# Altium schematic symbol library BT100_Project.SCHLIB: 27 symbols
Pins are listed as number, name and electrical type; pins without a type are passive.

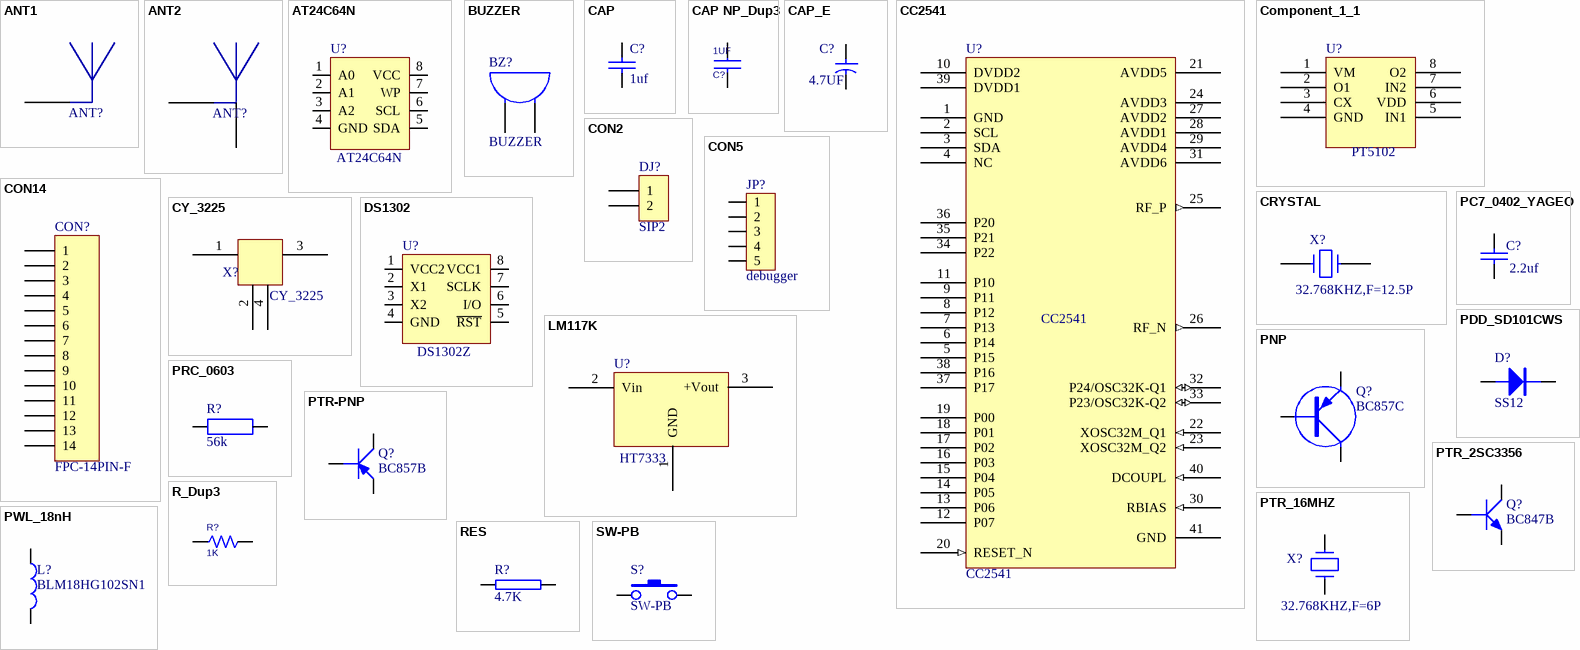
[diagram p0: symbols ANT1 to SW-PB]

## ANT1
designator ANT?, comment ANT  (value not drawn)
footprint ANT
pins: 2

## ANT2
designator ANT?, comment ANT  (value not drawn)
footprint ANT
pins: 1, 2

## AT24C64N
designator U?
footprint AT24C64
footprint PIC-00570-40-2A_93LC46B (SOIC-8)
pins: 1 A0, 2 A1, 3 A2, 4 GND, 5 SDA, 6 SCL, 7 WP, 8 VCC

## BUZZER
designator BZ?
footprint 2PAD-9
pins: 1 A, 2 B

## CAP
designator C?, comment 1uf
Capacitor
footprint 0603
pins: 1, 2

## CAP NP_Dup3
designator C?, comment 1UF
Right: 20; Bottom: 10
footprint C0603
footprint 0603
pins: 1, 2
2 alternate drawings of the same symbol

## CAP_E
designator C?, comment 4.7UF
1206
footprint 3216C
pins: 1, 2
2 alternate drawings of the same symbol

## CC2541
designator U?
footprint CC2530_QFN40
pins: 1 GND (power), 2 SCL (power), 3 SDA (power), 4 NC (power), 5 P15, 6 P14, 7 P13, 8 P12, 9 P11, 10 DVDD2 (power), 11 P10, 12 P07, 13 P06, 14 P05, 15 P04, 16 P03, 17 P02, 18 P01, 19 P00, 20 RESET_N (in), 21 AVDD5 (power), 22 XOSC32M_Q1 (in), 23 XOSC32M_Q2 (in), 24 AVDD3 (power), 25 RF_P (out), 26 RF_N (out), 27 AVDD2 (power), 28 AVDD1 (power), 29 AVDD4 (power), 30 RBIAS (in), 31 AVDD6 (power), 32 P24/OSC32K-Q1 (io), 33 P23/OSC32K-Q2 (io), 34 P22, 35 P21, 36 P20, 37 P17, 38 P16, 39 DVDD1 (power), 40 DCOUPL (in), 41 GND (power)

## Component_1_1
designator U?, comment PT5102
footprint PT5102
pins: 1 VM, 2 O1, 3 CX, 4 GND, 5 IN1, 6 VDD, 7 IN2, 8 O2

## CON2
designator DJ?, comment SIP2
Connector
footprint 2PAD-9
pins: 1, 2

## CON5
designator JP?, comment debugger
footprint ISCP-5PIN
pins: 1, 2, 3, 4, 5

## CON14
designator CON?, comment FPC-14PIN-F
Connector
footprint FFC6214
pins: 1, 2, 3, 4, 5, 6, 7, 8, 9, 10, 11, 12, 13, 14

## CRYSTAL
designator X?, comment 32.768KHZ,F=12.5P
Crystal
footprint FC-135
pins: 1, 2

## CY_3225
designator X?
footprint CY_3225
pins: 1 (power), 2 (power), 3 (power), 4 (power)

## DS1302
designator U?, comment DS1302Z
footprint PIC-00570-40-2A_93LC46B (SOIC-8)
pins: 1 VCC2, 2 X1, 3 X2, 4 GND, 5 ~{RST}, 6 I/O, 7 SCLK, 8 VCC1

## LM117K
designator U?, comment HT7333
footprint TO-3
footprint SOT89 (SOT-89; Body 4.6 x 4.25 mm, inc. leads (LxW max))
pins: 1 GND, 2 Vin, 3 +Vout

## PC7_0402_YAGEO
designator C?, comment 2.2uf
PC7-*****-KQA0A
footprint PC5-*****-**-0A_0603_TDK (0603)
pins: 1, 2
2 alternate drawings of the same symbol

## PDD_SD101CWS
designator D?, comment SS12
PDD-00330-00-2A
footprint SS12-DIDEO
pins: 1, 2

## PNP
designator Q?, comment BC857C
PNP Transistor
footprint PTR-C0025-00-2A_2SC1623
pins: B, C, E

## PRC_0603
designator R?, comment 56k
PRC-*****-AM-0A_0603; Text Field1: pristel=\Models.lib
footprint PRC-*****-BM-0A_0402 (0402)
pins: 1, 2
2 alternate drawings of the same symbol

## PTR-PNP
designator Q?, comment BC857B
footprint PTR-C0025-00-2A_2SC1623
pins: B 1, C 3, E 2

## PTR_2SC3356
designator Q?, comment BC847B
PTR-C0028-00-2A
footprint PTR-C0025-00-2A_2SC1623
pins: B 2, C 3, E 1
2 alternate drawings of the same symbol

## PTR_16MHZ
designator X?, comment 32.768KHZ,F=6P
PTR-X0320-20-2A
footprint FC-135
pins: 1, 2
2 alternate drawings of the same symbol

## PWL_18nH
designator L?, comment BLM18HG102SN1
PWL-00195-00-20
footprint PC5-*****-**-0A_0603_TDK (0603)
pins: 1, 2

## R_Dup3
designator R?, comment 1K
PSpiceTemplate: R^@REFDES %1 %2 ?TOLERANCE|R^@REFDES| @VALUE  ?TOLERANCE|\n.model R^@REFDES RES R=1 DEV=@TOLERANCE%|; Right: 20; Bottom: 20
footprint R0603
footprint 0603
pins: 1, 2
2 alternate drawings of the same symbol

## RES
designator R?, comment 4.7K
footprint 0603
pins: 1, 2

## SW-PB
designator S?
footprint TS-030
pins: 1, 2